# Altium schematic symbol library WR-FPC.SchLib: 258 symbols (part 3 of 6)
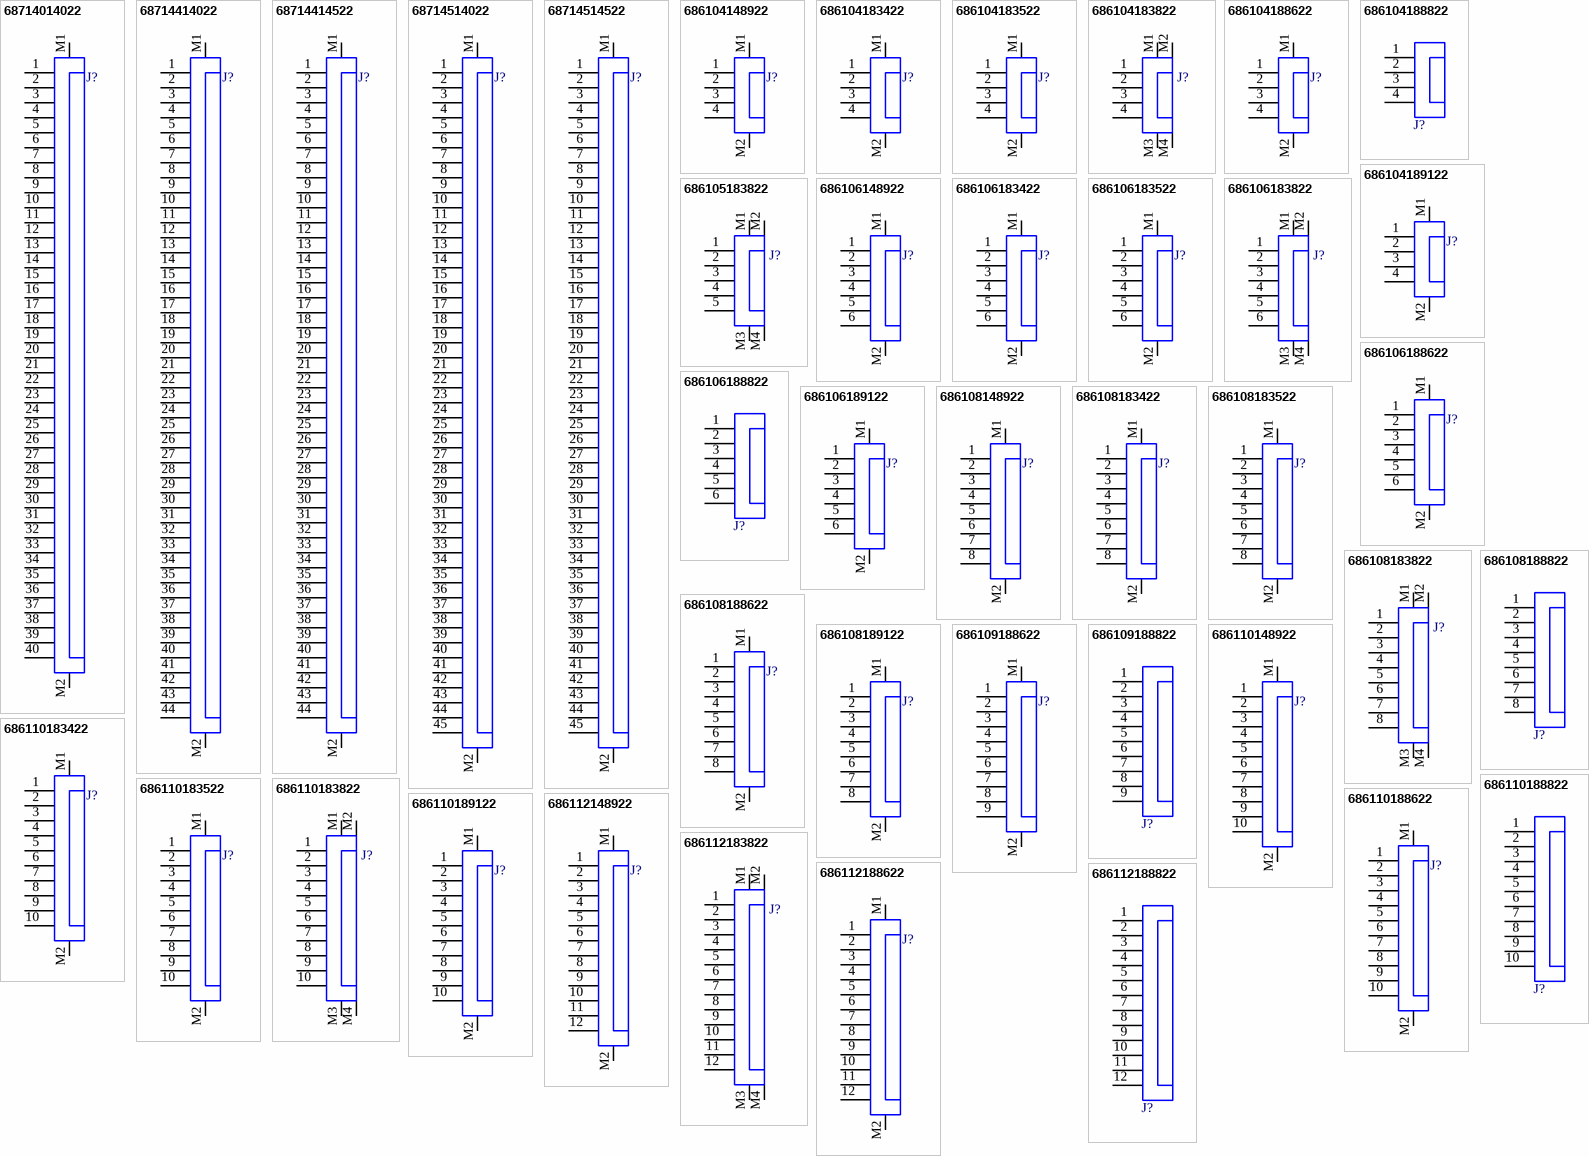
[diagram p9: symbols 68714014022 to 686112188822]

## 686112148922
designator J?  (value not drawn)
WR-FPC SMT ZIF Horizontal Bottom Contact Hinge Type, pitch 1mm, Horizontal, 12pins; Manufacturer: Wurth Elektronik; Contact Resistance: 50mΩ; Rated Current: 1A; Working Voltage: 100VAC; Withstanding Voltage: 1000VAC; ComponentLink1Description: Datasheet; ComponentLink1URL: https://www.we-online.com/redexpert/spec/686112148922?ad; Manufacturer Part Number: 686112148922; Category: FPC Connectors; Mount: Surface Mount; Operating Temperature Max: 105°C; Operating Temperature Min: -40°C; Packaging: Tape and Reel; Length: 16.6mm; Width: 6.5mm; Height: 2.2mm; Number of Pins: 12; Orientation: Horizontal; Pitch: 1mm; LCSC Part #: N/A; Supplier 1: Mouser; Supplier 1 Part Number: N/A; Supplier 1 URL: N/A; Supplier 2: Digi-Key; Supplier 2 Part Number: N/A; Supplier 2 URL: N/A; Supplier 3: thegioiic; Supplier 3 Part Number: N/A; Supplier 3 URL: N/A; Value: 686112148922
footprint 686112148922
pins: 1, 2, 3, 4, 5, 6, 7, 8, 9, 10, 11, 12, M1, M2

## 686112183822
designator J?  (value not drawn)
WR-FPC SMT ZIF Vertical Type A, pitch 1mm, Vertical, 12pins; Manufacturer: Wurth Elektronik; Contact Resistance: 30mΩ; Rated Current: 1A; Working Voltage: 125VAC; Withstanding Voltage: 1000VAC; ComponentLink1Description: Datasheet; ComponentLink1URL: https://www.we-online.com/redexpert/spec/686112183822?ad; Manufacturer Part Number: 686112183822; Category: FPC Connectors; Mount: Surface Mount; Operating Temperature Max: 85°C; Operating Temperature Min: -25°C; Packaging: Tape and Reel; Length: 18.8mm; Width: 3.3mm; Height: 3.25mm; Number of Pins: 12; Orientation: Vertical; Pitch: 1mm; LCSC Part #: N/A; Supplier 1: Mouser; Supplier 1 Part Number: N/A; Supplier 1 URL: N/A; Supplier 2: Digi-Key; Supplier 2 Part Number: N/A; Supplier 2 URL: N/A; Supplier 3: thegioiic; Supplier 3 Part Number: N/A; Supplier 3 URL: N/A; Value: 686112183822
footprint 686112183822
pins: 1, 2, 3, 4, 5, 6, 7, 8, 9, 10, 11, 12, M1, M2, M3, M4

## 686112188622
designator J?  (value not drawn)
WR-FPC SMT LIF Horizontal Top Contact, pitch 1mm, Horizontal, 12pins; Manufacturer: Wurth Elektronik; Contact Resistance: 30mΩ; Rated Current: 1A; Working Voltage: 125VAC; Withstanding Voltage: 1000VAC; ComponentLink1Description: Datasheet; ComponentLink1URL: https://www.we-online.com/redexpert/spec/686112188622?ad; Manufacturer Part Number: 686112188622; Category: FPC Connectors; Mount: Surface Mount; Operating Temperature Max: 85°C; Operating Temperature Min: -25°C; Packaging: Tape and Reel; Length: 15.8mm; Width: 6.8mm; Height: 3.1mm; Number of Pins: 12; Orientation: Horizontal; Pitch: 1mm; LCSC Part #: N/A; Supplier 1: Mouser; Supplier 1 Part Number: N/A; Supplier 1 URL: N/A; Supplier 2: Digi-Key; Supplier 2 Part Number: N/A; Supplier 2 URL: N/A; Supplier 3: thegioiic; Supplier 3 Part Number: N/A; Supplier 3 URL: N/A; Value: 686112188622
footprint 686112188622
pins: 1, 2, 3, 4, 5, 6, 7, 8, 9, 10, 11, 12, M1, M2

## 686112188822
designator J?  (value not drawn)
WR-FPC SMT LIF Vertical Type A, pitch 1mm, Vertical, 12pins; Manufacturer: Wurth Elektronik; Contact Resistance: 30mΩ; Rated Current: 1A; Working Voltage: 125VAC; Withstanding Voltage: 1000VAC; ComponentLink1Description: Datasheet; ComponentLink1URL: https://www.we-online.com/redexpert/spec/686112188822?ad; Manufacturer Part Number: 686112188822; Category: FPC Connectors; Mount: Surface Mount; Operating Temperature Max: 85°C; Operating Temperature Min: -25°C; Packaging: Tape and Reel; Length: 15mm; Width: 4.4mm; Height: 5.1mm; Number of Pins: 12; Orientation: Vertical; Pitch: 1mm; LCSC Part #: N/A; Supplier 1: Mouser; Supplier 1 Part Number: N/A; Supplier 1 URL: N/A; Supplier 2: Digi-Key; Supplier 2 Part Number: N/A; Supplier 2 URL: N/A; Supplier 3: thegioiic; Supplier 3 Part Number: N/A; Supplier 3 URL: N/A; Value: 686112188822
footprint 686112188822
pins: 1, 2, 3, 4, 5, 6, 7, 8, 9, 10, 11, 12

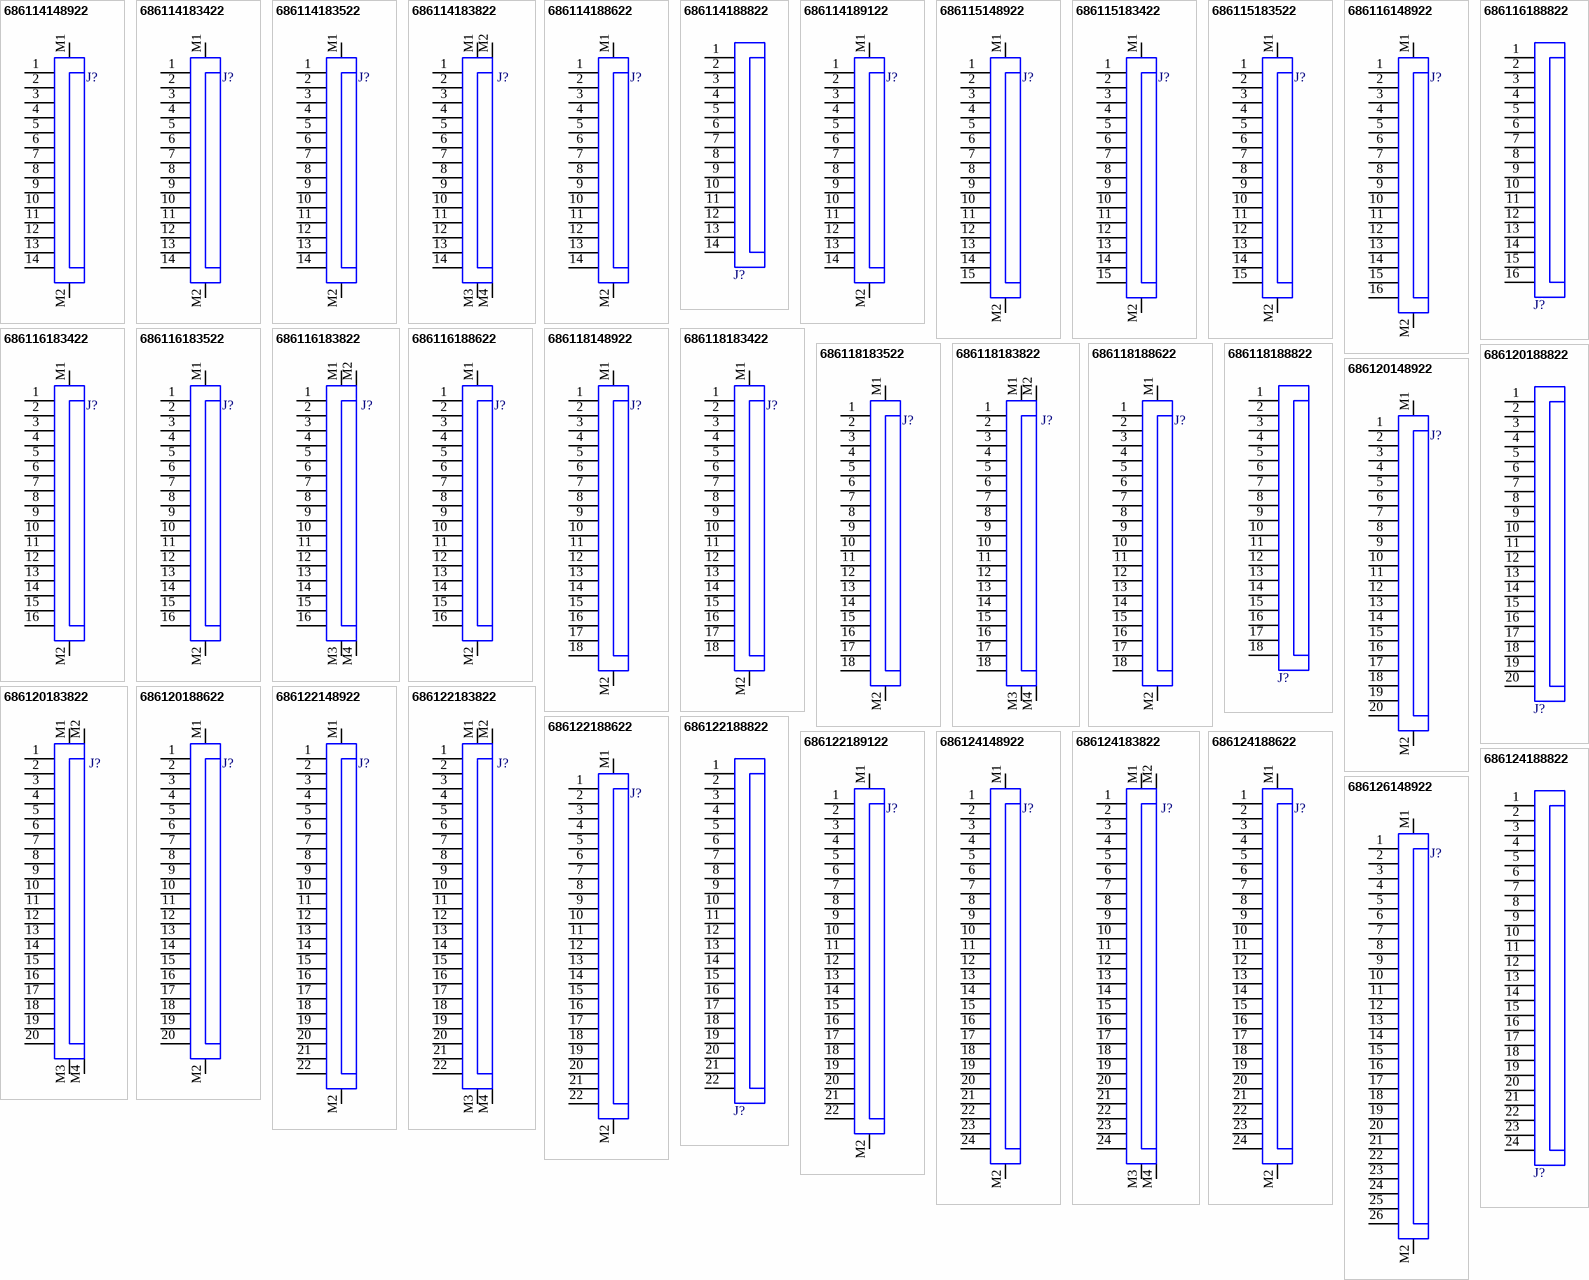
[diagram p3: symbols 686114148922 to 686126148922]

## 686114148922
designator J?  (value not drawn)
WR-FPC SMT ZIF Horizontal Bottom Contact Hinge Type, pitch 1mm, Horizontal, 14pins; Manufacturer: Wurth Elektronik; Contact Resistance: 50mΩ; Rated Current: 1A; Working Voltage: 100VAC; Withstanding Voltage: 1000VAC; ComponentLink1Description: Datasheet; ComponentLink1URL: https://www.we-online.com/redexpert/spec/686114148922?ad; Manufacturer Part Number: 686114148922; Category: FPC Connectors; Mount: Surface Mount; Operating Temperature Max: 105°C; Operating Temperature Min: -40°C; Packaging: Tape and Reel; Length: 18.6mm; Width: 6.5mm; Height: 2.2mm; Number of Pins: 14; Orientation: Horizontal; Pitch: 1mm; LCSC Part #: N/A; Supplier 1: Mouser; Supplier 1 Part Number: N/A; Supplier 1 URL: N/A; Supplier 2: Digi-Key; Supplier 2 Part Number: N/A; Supplier 2 URL: N/A; Supplier 3: thegioiic; Supplier 3 Part Number: N/A; Supplier 3 URL: N/A; Value: 686114148922
footprint 686114148922
pins: 1, 2, 3, 4, 5, 6, 7, 8, 9, 10, 11, 12, 13, 14, M1, M2

## 686114183422
designator J?  (value not drawn)
WR-FPC SMT ZIF Horizontal Top Contact Low Profile, pitch 1mm, Horizontal, 14pins; Manufacturer: Wurth Elektronik; Contact Resistance: 30mΩ; Rated Current: 0.8A; Working Voltage: 50VAC; Withstanding Voltage: 1000VAC; ComponentLink1Description: Datasheet; ComponentLink1URL: https://www.we-online.com/redexpert/spec/686114183422?ad; Manufacturer Part Number: 686114183422; Category: FPC Connectors; Mount: Surface Mount; Operating Temperature Max: 85°C; Operating Temperature Min: -25°C; Packaging: Tape and Reel; Length: 20.2mm; Width: 4.25mm; Height: 1.2mm; Number of Pins: 14; Orientation: Horizontal; Pitch: 1mm; LCSC Part #: N/A; Supplier 1: Mouser; Supplier 1 Part Number: N/A; Supplier 1 URL: N/A; Supplier 2: Digi-Key; Supplier 2 Part Number: N/A; Supplier 2 URL: N/A; Supplier 3: thegioiic; Supplier 3 Part Number: N/A; Supplier 3 URL: N/A; Value: 686114183422
footprint 686114183422
pins: 1, 2, 3, 4, 5, 6, 7, 8, 9, 10, 11, 12, 13, 14, M1, M2

## 686114183522
designator J?  (value not drawn)
WR-FPC SMT ZIF Horizontal Bottom Contact Low Profile, pitch 1mm, Horizontal, 14pins; Manufacturer: Wurth Elektronik; Contact Resistance: 30mΩ; Rated Current: 0.8A; Working Voltage: 50VAC; Withstanding Voltage: 1000VAC; ComponentLink1Description: Datasheet; ComponentLink1URL: https://www.we-online.com/redexpert/spec/686114183522?ad; Manufacturer Part Number: 686114183522; Category: FPC Connectors; Mount: Surface Mount; Operating Temperature Max: 85°C; Operating Temperature Min: -25°C; Packaging: Tape and Reel; Length: 20.2mm; Width: 4.25mm; Height: 1.2mm; Number of Pins: 14; Orientation: Horizontal; Pitch: 1mm; LCSC Part #: N/A; Supplier 1: Mouser; Supplier 1 Part Number: N/A; Supplier 1 URL: N/A; Supplier 2: Digi-Key; Supplier 2 Part Number: N/A; Supplier 2 URL: N/A; Supplier 3: thegioiic; Supplier 3 Part Number: N/A; Supplier 3 URL: N/A; Value: 686114183522
footprint 686114183522
pins: 1, 2, 3, 4, 5, 6, 7, 8, 9, 10, 11, 12, 13, 14, M1, M2

## 686114183822
designator J?  (value not drawn)
WR-FPC SMT ZIF Vertical Type A, pitch 1mm, Vertical, 14pins; Manufacturer: Wurth Elektronik; Contact Resistance: 30mΩ; Rated Current: 1A; Working Voltage: 125VAC; Withstanding Voltage: 1000VAC; ComponentLink1Description: Datasheet; ComponentLink1URL: https://www.we-online.com/redexpert/spec/686114183822?ad; Manufacturer Part Number: 686114183822; Category: FPC Connectors; Mount: Surface Mount; Operating Temperature Max: 85°C; Operating Temperature Min: -25°C; Packaging: Tape and Reel; Length: 20.8mm; Width: 3.3mm; Height: 3.25mm; Number of Pins: 14; Orientation: Vertical; Pitch: 1mm; LCSC Part #: N/A; Supplier 1: Mouser; Supplier 1 Part Number: N/A; Supplier 1 URL: N/A; Supplier 2: Digi-Key; Supplier 2 Part Number: N/A; Supplier 2 URL: N/A; Supplier 3: thegioiic; Supplier 3 Part Number: N/A; Supplier 3 URL: N/A; Value: 686114183822
footprint 686114183822
pins: 1, 2, 3, 4, 5, 6, 7, 8, 9, 10, 11, 12, 13, 14, M1, M2, M3, M4

## 686114188622
designator J?  (value not drawn)
WR-FPC SMT LIF Horizontal Top Contact, pitch 1mm, Horizontal, 14pins; Manufacturer: Wurth Elektronik; Contact Resistance: 30mΩ; Rated Current: 1A; Working Voltage: 125VAC; Withstanding Voltage: 1000VAC; ComponentLink1Description: Datasheet; ComponentLink1URL: https://www.we-online.com/redexpert/spec/686114188622?ad; Manufacturer Part Number: 686114188622; Category: FPC Connectors; Mount: Surface Mount; Operating Temperature Max: 85°C; Operating Temperature Min: -25°C; Packaging: Tape and Reel; Length: 17.8mm; Width: 6.8mm; Height: 3.1mm; Number of Pins: 14; Orientation: Horizontal; Pitch: 1mm; LCSC Part #: N/A; Supplier 1: Mouser; Supplier 1 Part Number: N/A; Supplier 1 URL: N/A; Supplier 2: Digi-Key; Supplier 2 Part Number: N/A; Supplier 2 URL: N/A; Supplier 3: thegioiic; Supplier 3 Part Number: N/A; Supplier 3 URL: N/A; Value: 686114188622
footprint 686114188622
pins: 1, 2, 3, 4, 5, 6, 7, 8, 9, 10, 11, 12, 13, 14, M1, M2

## 686114188822
designator J?  (value not drawn)
WR-FPC SMT LIF Vertical Type A, pitch 1mm, Vertical, 14pins; Manufacturer: Wurth Elektronik; Contact Resistance: 30mΩ; Rated Current: 1A; Working Voltage: 125VAC; Withstanding Voltage: 1000VAC; ComponentLink1Description: Datasheet; ComponentLink1URL: https://www.we-online.com/redexpert/spec/686114188822?ad; Manufacturer Part Number: 686114188822; Category: FPC Connectors; Mount: Surface Mount; Operating Temperature Max: 85°C; Operating Temperature Min: -25°C; Packaging: Tape and Reel; Length: 17mm; Width: 4.4mm; Height: 5.1mm; Number of Pins: 14; Orientation: Vertical; Pitch: 1mm; LCSC Part #: N/A; Supplier 1: Mouser; Supplier 1 Part Number: N/A; Supplier 1 URL: N/A; Supplier 2: Digi-Key; Supplier 2 Part Number: N/A; Supplier 2 URL: N/A; Supplier 3: thegioiic; Supplier 3 Part Number: N/A; Supplier 3 URL: N/A; Value: 686114188822
footprint 686114188822
pins: 1, 2, 3, 4, 5, 6, 7, 8, 9, 10, 11, 12, 13, 14

## 686114189122
designator J?  (value not drawn)
WR-FPC SMT ZIF Horizontal Back Locking Dual Contact, pitch 1mm, Horizontal, 14pins; Manufacturer: Wurth Elektronik; Contact Resistance: 30mΩ; Rated Current: 0.5A; Working Voltage: 50VAC; Withstanding Voltage: 1000VAC; ComponentLink1Description: Datasheet; ComponentLink1URL: https://www.we-online.com/redexpert/spec/686114189122?ad; Manufacturer Part Number: 686114189122; Category: FPC Connectors; Mount: Surface Mount; Operating Temperature Max: 85°C; Operating Temperature Min: -55°C; Packaging: Tape and Reel; Length: 16.5mm; Width: 2.88mm; Height: 0.96mm; Number of Pins: 14; Orientation: Horizontal; Pitch: 1mm; LCSC Part #: N/A; Supplier 1: Mouser; Supplier 1 Part Number: N/A; Supplier 1 URL: N/A; Supplier 2: Digi-Key; Supplier 2 Part Number: N/A; Supplier 2 URL: N/A; Supplier 3: thegioiic; Supplier 3 Part Number: N/A; Supplier 3 URL: N/A; Value: 686114189122
footprint 686114189122
pins: 1, 2, 3, 4, 5, 6, 7, 8, 9, 10, 11, 12, 13, 14, M1, M2

## 686115148922
designator J?  (value not drawn)
WR-FPC SMT ZIF Horizontal Bottom Contact Hinge Type, pitch 1mm, Horizontal, 15pins; Manufacturer: Wurth Elektronik; Contact Resistance: 50mΩ; Rated Current: 1A; Working Voltage: 100VAC; Withstanding Voltage: 1000VAC; ComponentLink1Description: Datasheet; ComponentLink1URL: https://www.we-online.com/redexpert/spec/686115148922?ad; Manufacturer Part Number: 686115148922; Category: FPC Connectors; Mount: Surface Mount; Operating Temperature Max: 105°C; Operating Temperature Min: -40°C; Packaging: Tape and Reel; Length: 19.6mm; Width: 6.5mm; Height: 2.2mm; Number of Pins: 15; Orientation: Horizontal; Pitch: 1mm; LCSC Part #: N/A; Supplier 1: Mouser; Supplier 1 Part Number: N/A; Supplier 1 URL: N/A; Supplier 2: Digi-Key; Supplier 2 Part Number: N/A; Supplier 2 URL: N/A; Supplier 3: thegioiic; Supplier 3 Part Number: N/A; Supplier 3 URL: N/A; Value: 686115148922
footprint 686115148922
pins: 1, 2, 3, 4, 5, 6, 7, 8, 9, 10, 11, 12, 13, 14, 15, M1, M2

## 686115183422
designator J?  (value not drawn)
WR-FPC SMT ZIF Horizontal Top Contact Low Profile, pitch 1mm, Horizontal, 15pins; Manufacturer: Wurth Elektronik; Contact Resistance: 30mΩ; Rated Current: 0.8A; Working Voltage: 50VAC; Withstanding Voltage: 1000VAC; ComponentLink1Description: Datasheet; ComponentLink1URL: https://www.we-online.com/redexpert/spec/686115183422?ad; Manufacturer Part Number: 686115183422; Category: FPC Connectors; Mount: Surface Mount; Operating Temperature Max: 85°C; Operating Temperature Min: -25°C; Packaging: Tape and Reel; Length: 21.2mm; Width: 4.25mm; Height: 1.2mm; Number of Pins: 15; Orientation: Horizontal; Pitch: 1mm; LCSC Part #: N/A; Supplier 1: Mouser; Supplier 1 Part Number: N/A; Supplier 1 URL: N/A; Supplier 2: Digi-Key; Supplier 2 Part Number: N/A; Supplier 2 URL: N/A; Supplier 3: thegioiic; Supplier 3 Part Number: N/A; Supplier 3 URL: N/A; Value: 686115183422
footprint 686115183422
pins: 1, 2, 3, 4, 5, 6, 7, 8, 9, 10, 11, 12, 13, 14, 15, M1, M2

## 686115183522
designator J?  (value not drawn)
WR-FPC SMT ZIF Horizontal Bottom Contact Low Profile, pitch 1mm, Horizontal, 15pins; Manufacturer: Wurth Elektronik; Contact Resistance: 30mΩ; Rated Current: 0.8A; Working Voltage: 50VAC; Withstanding Voltage: 1000VAC; ComponentLink1Description: Datasheet; ComponentLink1URL: https://www.we-online.com/redexpert/spec/686115183522?ad; Manufacturer Part Number: 686115183522; Category: FPC Connectors; Mount: Surface Mount; Operating Temperature Max: 85°C; Operating Temperature Min: -25°C; Packaging: Tape and Reel; Length: 21.2mm; Width: 4.25mm; Height: 1.2mm; Number of Pins: 15; Orientation: Horizontal; Pitch: 1mm; LCSC Part #: N/A; Supplier 1: Mouser; Supplier 1 Part Number: N/A; Supplier 1 URL: N/A; Supplier 2: Digi-Key; Supplier 2 Part Number: N/A; Supplier 2 URL: N/A; Supplier 3: thegioiic; Supplier 3 Part Number: N/A; Supplier 3 URL: N/A; Value: 686115183522
footprint 686115183522
pins: 1, 2, 3, 4, 5, 6, 7, 8, 9, 10, 11, 12, 13, 14, 15, M1, M2

## 686116148922
designator J?  (value not drawn)
WR-FPC SMT ZIF Horizontal Bottom Contact Hinge Type, pitch 1mm, Horizontal, 16pins; Manufacturer: Wurth Elektronik; Contact Resistance: 50mΩ; Rated Current: 1A; Working Voltage: 100VAC; Withstanding Voltage: 1000VAC; ComponentLink1Description: Datasheet; ComponentLink1URL: https://www.we-online.com/redexpert/spec/686116148922?ad; Manufacturer Part Number: 686116148922; Category: FPC Connectors; Mount: Surface Mount; Operating Temperature Max: 105°C; Operating Temperature Min: -40°C; Packaging: Tape and Reel; Length: 20.6mm; Width: 6.5mm; Height: 2.2mm; Number of Pins: 16; Orientation: Horizontal; Pitch: 1mm; LCSC Part #: N/A; Supplier 1: Mouser; Supplier 1 Part Number: N/A; Supplier 1 URL: N/A; Supplier 2: Digi-Key; Supplier 2 Part Number: N/A; Supplier 2 URL: N/A; Supplier 3: thegioiic; Supplier 3 Part Number: N/A; Supplier 3 URL: N/A; Value: 686116148922
footprint 686116148922
pins: 1, 2, 3, 4, 5, 6, 7, 8, 9, 10, 11, 12, 13, 14, 15, 16, M1, M2

## 686116183422
designator J?  (value not drawn)
WR-FPC SMT ZIF Horizontal Top Contact Low Profile, pitch 1mm, Horizontal, 16pins; Manufacturer: Wurth Elektronik; Contact Resistance: 30mΩ; Rated Current: 0.8A; Working Voltage: 50VAC; Withstanding Voltage: 1000VAC; ComponentLink1Description: Datasheet; ComponentLink1URL: https://www.we-online.com/redexpert/spec/686116183422?ad; Manufacturer Part Number: 686116183422; Category: FPC Connectors; Mount: Surface Mount; Operating Temperature Max: 85°C; Operating Temperature Min: -25°C; Packaging: Tape and Reel; Length: 22.2mm; Width: 4.25mm; Height: 1.2mm; Number of Pins: 16; Orientation: Horizontal; Pitch: 1mm; LCSC Part #: N/A; Supplier 1: Mouser; Supplier 1 Part Number: N/A; Supplier 1 URL: N/A; Supplier 2: Digi-Key; Supplier 2 Part Number: N/A; Supplier 2 URL: N/A; Supplier 3: thegioiic; Supplier 3 Part Number: N/A; Supplier 3 URL: N/A; Value: 686116183422
footprint 686116183422
pins: 1, 2, 3, 4, 5, 6, 7, 8, 9, 10, 11, 12, 13, 14, 15, 16, M1, M2

## 686116183522
designator J?  (value not drawn)
WR-FPC SMT ZIF Horizontal Bottom Contact Low Profile, pitch 1mm, Horizontal, 16pins; Manufacturer: Wurth Elektronik; Contact Resistance: 30mΩ; Rated Current: 0.8A; Working Voltage: 50VAC; Withstanding Voltage: 1000VAC; ComponentLink1Description: Datasheet; ComponentLink1URL: https://www.we-online.com/redexpert/spec/686116183522?ad; Manufacturer Part Number: 686116183522; Category: FPC Connectors; Mount: Surface Mount; Operating Temperature Max: 85°C; Operating Temperature Min: -25°C; Packaging: Tape and Reel; Length: 22.2mm; Width: 4.25mm; Height: 1.2mm; Number of Pins: 16; Orientation: Horizontal; Pitch: 1mm; LCSC Part #: N/A; Supplier 1: Mouser; Supplier 1 Part Number: N/A; Supplier 1 URL: N/A; Supplier 2: Digi-Key; Supplier 2 Part Number: N/A; Supplier 2 URL: N/A; Supplier 3: thegioiic; Supplier 3 Part Number: N/A; Supplier 3 URL: N/A; Value: 686116183522
footprint 686116183522
pins: 1, 2, 3, 4, 5, 6, 7, 8, 9, 10, 11, 12, 13, 14, 15, 16, M1, M2

## 686116183822
designator J?  (value not drawn)
WR-FPC SMT ZIF Vertical Type A, pitch 1mm, Vertical, 16pins; Manufacturer: Wurth Elektronik; Contact Resistance: 30mΩ; Rated Current: 1A; Working Voltage: 125VAC; Withstanding Voltage: 1000VAC; ComponentLink1Description: Datasheet; ComponentLink1URL: https://www.we-online.com/redexpert/spec/686116183822?ad; Manufacturer Part Number: 686116183822; Category: FPC Connectors; Mount: Surface Mount; Operating Temperature Max: 85°C; Operating Temperature Min: -25°C; Packaging: Tape and Reel; Length: 22.8mm; Width: 3.3mm; Height: 3.25mm; Number of Pins: 16; Orientation: Vertical; Pitch: 1mm; LCSC Part #: N/A; Supplier 1: Mouser; Supplier 1 Part Number: N/A; Supplier 1 URL: N/A; Supplier 2: Digi-Key; Supplier 2 Part Number: N/A; Supplier 2 URL: N/A; Supplier 3: thegioiic; Supplier 3 Part Number: N/A; Supplier 3 URL: N/A; Value: 686116183822
footprint 686116183822
pins: 1, 2, 3, 4, 5, 6, 7, 8, 9, 10, 11, 12, 13, 14, 15, 16, M1, M2, M3, M4

## 686116188622
designator J?  (value not drawn)
WR-FPC SMT LIF Horizontal Top Contact, pitch 1mm, Horizontal, 16pins; Manufacturer: Wurth Elektronik; Contact Resistance: 30mΩ; Rated Current: 1A; Working Voltage: 125VAC; Withstanding Voltage: 1000VAC; ComponentLink1Description: Datasheet; ComponentLink1URL: https://www.we-online.com/redexpert/spec/686116188622?ad; Manufacturer Part Number: 686116188622; Category: FPC Connectors; Mount: Surface Mount; Operating Temperature Max: 85°C; Operating Temperature Min: -25°C; Packaging: Tape and Reel; Length: 19.8mm; Width: 6.8mm; Height: 3.1mm; Number of Pins: 16; Orientation: Horizontal; Pitch: 1mm; LCSC Part #: N/A; Supplier 1: Mouser; Supplier 1 Part Number: N/A; Supplier 1 URL: N/A; Supplier 2: Digi-Key; Supplier 2 Part Number: N/A; Supplier 2 URL: N/A; Supplier 3: thegioiic; Supplier 3 Part Number: N/A; Supplier 3 URL: N/A; Value: 686116188622
footprint 686116188622
pins: 1, 2, 3, 4, 5, 6, 7, 8, 9, 10, 11, 12, 13, 14, 15, 16, M1, M2

## 686116188822
designator J?  (value not drawn)
WR-FPC SMT LIF Vertical Type A, pitch 1mm, Vertical, 16pins; Manufacturer: Wurth Elektronik; Contact Resistance: 30mΩ; Rated Current: 1A; Working Voltage: 125VAC; Withstanding Voltage: 1000VAC; ComponentLink1Description: Datasheet; ComponentLink1URL: https://www.we-online.com/redexpert/spec/686116188822?ad; Manufacturer Part Number: 686116188822; Category: FPC Connectors; Mount: Surface Mount; Operating Temperature Max: 85°C; Operating Temperature Min: -25°C; Packaging: Tape and Reel; Length: 19mm; Width: 4.4mm; Height: 5.1mm; Number of Pins: 16; Orientation: Vertical; Pitch: 1mm; LCSC Part #: N/A; Supplier 1: Mouser; Supplier 1 Part Number: N/A; Supplier 1 URL: N/A; Supplier 2: Digi-Key; Supplier 2 Part Number: N/A; Supplier 2 URL: N/A; Supplier 3: thegioiic; Supplier 3 Part Number: N/A; Supplier 3 URL: N/A; Value: 686116188822
footprint 686116188822
pins: 1, 2, 3, 4, 5, 6, 7, 8, 9, 10, 11, 12, 13, 14, 15, 16

## 686118148922
designator J?  (value not drawn)
WR-FPC SMT ZIF Horizontal Bottom Contact Hinge Type, pitch 1mm, Horizontal, 18pins; Manufacturer: Wurth Elektronik; Contact Resistance: 50mΩ; Rated Current: 1A; Working Voltage: 100VAC; Withstanding Voltage: 1000VAC; ComponentLink1Description: Datasheet; ComponentLink1URL: https://www.we-online.com/redexpert/spec/686118148922?ad; Manufacturer Part Number: 686118148922; Category: FPC Connectors; Mount: Surface Mount; Operating Temperature Max: 105°C; Operating Temperature Min: -40°C; Packaging: Tape and Reel; Length: 22.6mm; Width: 6.5mm; Height: 2.2mm; Number of Pins: 18; Orientation: Horizontal; Pitch: 1mm; LCSC Part #: N/A; Supplier 1: Mouser; Supplier 1 Part Number: N/A; Supplier 1 URL: N/A; Supplier 2: Digi-Key; Supplier 2 Part Number: N/A; Supplier 2 URL: N/A; Supplier 3: thegioiic; Supplier 3 Part Number: N/A; Supplier 3 URL: N/A; Value: 686118148922
footprint 686118148922
pins: 1, 2, 3, 4, 5, 6, 7, 8, 9, 10, 11, 12, 13, 14, 15, 16, 17, 18, M1, M2

## 686118183422
designator J?  (value not drawn)
WR-FPC SMT ZIF Horizontal Top Contact Low Profile, pitch 1mm, Horizontal, 18pins; Manufacturer: Wurth Elektronik; Contact Resistance: 30mΩ; Rated Current: 0.8A; Working Voltage: 50VAC; Withstanding Voltage: 1000VAC; ComponentLink1Description: Datasheet; ComponentLink1URL: https://www.we-online.com/redexpert/spec/686118183422?ad; Manufacturer Part Number: 686118183422; Category: FPC Connectors; Mount: Surface Mount; Operating Temperature Max: 85°C; Operating Temperature Min: -25°C; Packaging: Tape and Reel; Length: 24.2mm; Width: 4.25mm; Height: 1.2mm; Number of Pins: 18; Orientation: Horizontal; Pitch: 1mm; LCSC Part #: N/A; Supplier 1: Mouser; Supplier 1 Part Number: N/A; Supplier 1 URL: N/A; Supplier 2: Digi-Key; Supplier 2 Part Number: N/A; Supplier 2 URL: N/A; Supplier 3: thegioiic; Supplier 3 Part Number: N/A; Supplier 3 URL: N/A; Value: 686118183422
footprint 686118183422
pins: 1, 2, 3, 4, 5, 6, 7, 8, 9, 10, 11, 12, 13, 14, 15, 16, 17, 18, M1, M2

## 686118183522
designator J?  (value not drawn)
WR-FPC SMT ZIF Horizontal Bottom Contact Low Profile, pitch 1mm, Horizontal, 18pins; Manufacturer: Wurth Elektronik; Contact Resistance: 30mΩ; Rated Current: 0.8A; Working Voltage: 50VAC; Withstanding Voltage: 1000VAC; ComponentLink1Description: Datasheet; ComponentLink1URL: https://www.we-online.com/redexpert/spec/686118183522?ad; Manufacturer Part Number: 686118183522; Category: FPC Connectors; Mount: Surface Mount; Operating Temperature Max: 85°C; Operating Temperature Min: -25°C; Packaging: Tape and Reel; Length: 24.2mm; Width: 4.25mm; Height: 1.2mm; Number of Pins: 18; Orientation: Horizontal; Pitch: 1mm; LCSC Part #: N/A; Supplier 1: Mouser; Supplier 1 Part Number: N/A; Supplier 1 URL: N/A; Supplier 2: Digi-Key; Supplier 2 Part Number: N/A; Supplier 2 URL: N/A; Supplier 3: thegioiic; Supplier 3 Part Number: N/A; Supplier 3 URL: N/A; Value: 686118183522
footprint 686118183522
pins: 1, 2, 3, 4, 5, 6, 7, 8, 9, 10, 11, 12, 13, 14, 15, 16, 17, 18, M1, M2

## 686118183822
designator J?  (value not drawn)
WR-FPC SMT ZIF Vertical Type A, pitch 1mm, Vertical, 18pins; Manufacturer: Wurth Elektronik; Contact Resistance: 30mΩ; Rated Current: 1A; Working Voltage: 125VAC; Withstanding Voltage: 1000VAC; ComponentLink1Description: Datasheet; ComponentLink1URL: https://www.we-online.com/redexpert/spec/686118183822?ad; Manufacturer Part Number: 686118183822; Category: FPC Connectors; Mount: Surface Mount; Operating Temperature Max: 85°C; Operating Temperature Min: -25°C; Packaging: Tape and Reel; Length: 24.8mm; Width: 3.3mm; Height: 3.25mm; Number of Pins: 18; Orientation: Vertical; Pitch: 1mm; LCSC Part #: N/A; Supplier 1: Mouser; Supplier 1 Part Number: N/A; Supplier 1 URL: N/A; Supplier 2: Digi-Key; Supplier 2 Part Number: N/A; Supplier 2 URL: N/A; Supplier 3: thegioiic; Supplier 3 Part Number: N/A; Supplier 3 URL: N/A; Value: 686118183822
footprint 686118183822
pins: 1, 2, 3, 4, 5, 6, 7, 8, 9, 10, 11, 12, 13, 14, 15, 16, 17, 18, M1, M2, M3, M4

## 686118188622
designator J?  (value not drawn)
WR-FPC SMT LIF Horizontal Top Contact, pitch 1mm, Horizontal, 18pins; Manufacturer: Wurth Elektronik; Contact Resistance: 30mΩ; Rated Current: 1A; Working Voltage: 125VAC; Withstanding Voltage: 1000VAC; ComponentLink1Description: Datasheet; ComponentLink1URL: https://www.we-online.com/redexpert/spec/686118188622?ad; Manufacturer Part Number: 686118188622; Category: FPC Connectors; Mount: Surface Mount; Operating Temperature Max: 85°C; Operating Temperature Min: -25°C; Packaging: Tape and Reel; Length: 21.8mm; Width: 6.8mm; Height: 3.1mm; Number of Pins: 18; Orientation: Horizontal; Pitch: 1mm; LCSC Part #: N/A; Supplier 1: Mouser; Supplier 1 Part Number: N/A; Supplier 1 URL: N/A; Supplier 2: Digi-Key; Supplier 2 Part Number: N/A; Supplier 2 URL: N/A; Supplier 3: thegioiic; Supplier 3 Part Number: N/A; Supplier 3 URL: N/A; Value: 686118188622
footprint 686118188622
pins: 1, 2, 3, 4, 5, 6, 7, 8, 9, 10, 11, 12, 13, 14, 15, 16, 17, 18, M1, M2

## 686118188822
designator J?  (value not drawn)
WR-FPC SMT LIF Vertical Type A, pitch 1mm, Vertical, 18pins; Manufacturer: Wurth Elektronik; Contact Resistance: 30mΩ; Rated Current: 1A; Working Voltage: 125VAC; Withstanding Voltage: 1000VAC; ComponentLink1Description: Datasheet; ComponentLink1URL: https://www.we-online.com/redexpert/spec/686118188822?ad; Manufacturer Part Number: 686118188822; Category: FPC Connectors; Mount: Surface Mount; Operating Temperature Max: 85°C; Operating Temperature Min: -25°C; Packaging: Tape and Reel; Length: 21mm; Width: 4.4mm; Height: 5.1mm; Number of Pins: 18; Orientation: Vertical; Pitch: 1mm; LCSC Part #: N/A; Supplier 1: Mouser; Supplier 1 Part Number: N/A; Supplier 1 URL: N/A; Supplier 2: Digi-Key; Supplier 2 Part Number: N/A; Supplier 2 URL: N/A; Supplier 3: thegioiic; Supplier 3 Part Number: N/A; Supplier 3 URL: N/A; Value: 686118188822
footprint 686118188822
pins: 1, 2, 3, 4, 5, 6, 7, 8, 9, 10, 11, 12, 13, 14, 15, 16, 17, 18

## 686120148922
designator J?  (value not drawn)
WR-FPC SMT ZIF Horizontal Bottom Contact Hinge Type, pitch 1mm, Horizontal, 20pins; Manufacturer: Wurth Elektronik; Contact Resistance: 50mΩ; Rated Current: 1A; Working Voltage: 100VAC; Withstanding Voltage: 1000VAC; ComponentLink1Description: Datasheet; ComponentLink1URL: https://www.we-online.com/redexpert/spec/686120148922?ad; Manufacturer Part Number: 686120148922; Category: FPC Connectors; Mount: Surface Mount; Operating Temperature Max: 105°C; Operating Temperature Min: -40°C; Packaging: Tape and Reel; Length: 24.6mm; Width: 6.5mm; Height: 2.2mm; Number of Pins: 20; Orientation: Horizontal; Pitch: 1mm; LCSC Part #: N/A; Supplier 1: Mouser; Supplier 1 Part Number: N/A; Supplier 1 URL: N/A; Supplier 2: Digi-Key; Supplier 2 Part Number: N/A; Supplier 2 URL: N/A; Supplier 3: thegioiic; Supplier 3 Part Number: N/A; Supplier 3 URL: N/A; Value: 686120148922
footprint 686120148922
pins: 1, 2, 3, 4, 5, 6, 7, 8, 9, 10, 11, 12, 13, 14, 15, 16, 17, 18, 19, 20, M1, M2

## 686120183822
designator J?  (value not drawn)
WR-FPC SMT ZIF Vertical Type A, pitch 1mm, Vertical, 20pins; Manufacturer: Wurth Elektronik; Contact Resistance: 30mΩ; Rated Current: 1A; Working Voltage: 125VAC; Withstanding Voltage: 1000VAC; ComponentLink1Description: Datasheet; ComponentLink1URL: https://www.we-online.com/redexpert/spec/686120183822?ad; Manufacturer Part Number: 686120183822; Category: FPC Connectors; Mount: Surface Mount; Operating Temperature Max: 85°C; Operating Temperature Min: -25°C; Packaging: Tape and Reel; Length: 26.8mm; Width: 3.3mm; Height: 3.25mm; Number of Pins: 20; Orientation: Vertical; Pitch: 1mm; LCSC Part #: N/A; Supplier 1: Mouser; Supplier 1 Part Number: N/A; Supplier 1 URL: N/A; Supplier 2: Digi-Key; Supplier 2 Part Number: N/A; Supplier 2 URL: N/A; Supplier 3: thegioiic; Supplier 3 Part Number: N/A; Supplier 3 URL: N/A; Value: 686120183822
footprint 686120183822
pins: 1, 2, 3, 4, 5, 6, 7, 8, 9, 10, 11, 12, 13, 14, 15, 16, 17, 18, 19, 20, M1, M2, M3, M4

## 686120188622
designator J?  (value not drawn)
WR-FPC SMT LIF Horizontal Top Contact, pitch 1mm, Horizontal, 20pins; Manufacturer: Wurth Elektronik; Contact Resistance: 30mΩ; Rated Current: 1A; Working Voltage: 125VAC; Withstanding Voltage: 1000VAC; ComponentLink1Description: Datasheet; ComponentLink1URL: https://www.we-online.com/redexpert/spec/686120188622?ad; Manufacturer Part Number: 686120188622; Category: FPC Connectors; Mount: Surface Mount; Operating Temperature Max: 85°C; Operating Temperature Min: -25°C; Packaging: Tape and Reel; Length: 23.8mm; Width: 6.8mm; Height: 3.1mm; Number of Pins: 20; Orientation: Horizontal; Pitch: 1mm; LCSC Part #: N/A; Supplier 1: Mouser; Supplier 1 Part Number: N/A; Supplier 1 URL: N/A; Supplier 2: Digi-Key; Supplier 2 Part Number: N/A; Supplier 2 URL: N/A; Supplier 3: thegioiic; Supplier 3 Part Number: N/A; Supplier 3 URL: N/A; Value: 686120188622
footprint 686120188622
pins: 1, 2, 3, 4, 5, 6, 7, 8, 9, 10, 11, 12, 13, 14, 15, 16, 17, 18, 19, 20, M1, M2

## 686120188822
designator J?  (value not drawn)
WR-FPC SMT LIF Vertical Type A, pitch 1mm, Vertical, 20pins; Manufacturer: Wurth Elektronik; Contact Resistance: 30mΩ; Rated Current: 1A; Working Voltage: 125VAC; Withstanding Voltage: 1000VAC; ComponentLink1Description: Datasheet; ComponentLink1URL: https://www.we-online.com/redexpert/spec/686120188822?ad; Manufacturer Part Number: 686120188822; Category: FPC Connectors; Mount: Surface Mount; Operating Temperature Max: 85°C; Operating Temperature Min: -25°C; Packaging: Tape and Reel; Length: 23mm; Width: 4.4mm; Height: 5.1mm; Number of Pins: 20; Orientation: Vertical; Pitch: 1mm; LCSC Part #: N/A; Supplier 1: Mouser; Supplier 1 Part Number: N/A; Supplier 1 URL: N/A; Supplier 2: Digi-Key; Supplier 2 Part Number: N/A; Supplier 2 URL: N/A; Supplier 3: thegioiic; Supplier 3 Part Number: N/A; Supplier 3 URL: N/A; Value: 686120188822
footprint 686120188822
pins: 1, 2, 3, 4, 5, 6, 7, 8, 9, 10, 11, 12, 13, 14, 15, 16, 17, 18, 19, 20

## 686122148922
designator J?  (value not drawn)
WR-FPC SMT ZIF Horizontal Bottom Contact Hinge Type, pitch 1mm, Horizontal, 22pins; Manufacturer: Wurth Elektronik; Contact Resistance: 50mΩ; Rated Current: 1A; Working Voltage: 100VAC; Withstanding Voltage: 1000VAC; ComponentLink1Description: Datasheet; ComponentLink1URL: https://www.we-online.com/redexpert/spec/686122148922?ad; Manufacturer Part Number: 686122148922; Category: FPC Connectors; Mount: Surface Mount; Operating Temperature Max: 105°C; Operating Temperature Min: -40°C; Packaging: Tape and Reel; Length: 26.6mm; Width: 6.5mm; Height: 2.2mm; Number of Pins: 22; Orientation: Horizontal; Pitch: 1mm; LCSC Part #: N/A; Supplier 1: Mouser; Supplier 1 Part Number: N/A; Supplier 1 URL: N/A; Supplier 2: Digi-Key; Supplier 2 Part Number: N/A; Supplier 2 URL: N/A; Supplier 3: thegioiic; Supplier 3 Part Number: N/A; Supplier 3 URL: N/A; Value: 686122148922
footprint 686122148922
pins: 1, 2, 3, 4, 5, 6, 7, 8, 9, 10, 11, 12, 13, 14, 15, 16, 17, 18, 19, 20, 21, 22, M1, M2

## 686122183822
designator J?  (value not drawn)
WR-FPC SMT ZIF Vertical Type A, pitch 1mm, Vertical, 22pins; Manufacturer: Wurth Elektronik; Contact Resistance: 30mΩ; Rated Current: 1A; Working Voltage: 125VAC; Withstanding Voltage: 1000VAC; ComponentLink1Description: Datasheet; ComponentLink1URL: https://www.we-online.com/redexpert/spec/686122183822?ad; Manufacturer Part Number: 686122183822; Category: FPC Connectors; Mount: Surface Mount; Operating Temperature Max: 85°C; Operating Temperature Min: -25°C; Packaging: Tape and Reel; Length: 28.8mm; Width: 3.3mm; Height: 3.25mm; Number of Pins: 22; Orientation: Vertical; Pitch: 1mm; LCSC Part #: N/A; Supplier 1: Mouser; Supplier 1 Part Number: N/A; Supplier 1 URL: N/A; Supplier 2: Digi-Key; Supplier 2 Part Number: N/A; Supplier 2 URL: N/A; Supplier 3: thegioiic; Supplier 3 Part Number: N/A; Supplier 3 URL: N/A; Value: 686122183822
footprint 686122183822
pins: 1, 2, 3, 4, 5, 6, 7, 8, 9, 10, 11, 12, 13, 14, 15, 16, 17, 18, 19, 20, 21, 22, M1, M2, M3, M4

## 686122188622
designator J?  (value not drawn)
WR-FPC SMT LIF Horizontal Top Contact, pitch 1mm, Horizontal, 22pins; Manufacturer: Wurth Elektronik; Contact Resistance: 30mΩ; Rated Current: 1A; Working Voltage: 125VAC; Withstanding Voltage: 1000VAC; ComponentLink1Description: Datasheet; ComponentLink1URL: https://www.we-online.com/redexpert/spec/686122188622?ad; Manufacturer Part Number: 686122188622; Category: FPC Connectors; Mount: Surface Mount; Operating Temperature Max: 85°C; Operating Temperature Min: -25°C; Packaging: Tape and Reel; Length: 25.8mm; Width: 6.8mm; Height: 3.1mm; Number of Pins: 22; Orientation: Horizontal; Pitch: 1mm; LCSC Part #: N/A; Supplier 1: Mouser; Supplier 1 Part Number: N/A; Supplier 1 URL: N/A; Supplier 2: Digi-Key; Supplier 2 Part Number: N/A; Supplier 2 URL: N/A; Supplier 3: thegioiic; Supplier 3 Part Number: N/A; Supplier 3 URL: N/A; Value: 686122188622
footprint 686122188622
pins: 1, 2, 3, 4, 5, 6, 7, 8, 9, 10, 11, 12, 13, 14, 15, 16, 17, 18, 19, 20, 21, 22, M1, M2

## 686122188822
designator J?  (value not drawn)
WR-FPC SMT LIF Vertical Type A, pitch 1mm, Vertical, 22pins; Manufacturer: Wurth Elektronik; Contact Resistance: 30mΩ; Rated Current: 1A; Working Voltage: 125VAC; Withstanding Voltage: 1000VAC; ComponentLink1Description: Datasheet; ComponentLink1URL: https://www.we-online.com/redexpert/spec/686122188822?ad; Manufacturer Part Number: 686122188822; Category: FPC Connectors; Mount: Surface Mount; Operating Temperature Max: 85°C; Operating Temperature Min: -25°C; Packaging: Tape and Reel; Length: 25mm; Width: 4.4mm; Height: 5.1mm; Number of Pins: 22; Orientation: Vertical; Pitch: 1mm; LCSC Part #: N/A; Supplier 1: Mouser; Supplier 1 Part Number: N/A; Supplier 1 URL: N/A; Supplier 2: Digi-Key; Supplier 2 Part Number: N/A; Supplier 2 URL: N/A; Supplier 3: thegioiic; Supplier 3 Part Number: N/A; Supplier 3 URL: N/A; Value: 686122188822
footprint 686122188822
pins: 1, 2, 3, 4, 5, 6, 7, 8, 9, 10, 11, 12, 13, 14, 15, 16, 17, 18, 19, 20, 21, 22

## 686122189122
designator J?  (value not drawn)
WR-FPC SMT ZIF Horizontal Back Locking Dual Contact, pitch 1mm, Horizontal, 22pins; Manufacturer: Wurth Elektronik; Contact Resistance: 30mΩ; Rated Current: 0.5A; Working Voltage: 50VAC; Withstanding Voltage: 1000VAC; ComponentLink1Description: Datasheet; ComponentLink1URL: https://www.we-online.com/redexpert/spec/686122189122?ad; Manufacturer Part Number: 686122189122; Category: FPC Connectors; Mount: Surface Mount; Operating Temperature Max: 85°C; Operating Temperature Min: -55°C; Packaging: Tape and Reel; Length: 24.5mm; Width: 2.88mm; Height: 0.96mm; Number of Pins: 22; Orientation: Horizontal; Pitch: 1mm; LCSC Part #: N/A; Supplier 1: Mouser; Supplier 1 Part Number: N/A; Supplier 1 URL: N/A; Supplier 2: Digi-Key; Supplier 2 Part Number: N/A; Supplier 2 URL: N/A; Supplier 3: thegioiic; Supplier 3 Part Number: N/A; Supplier 3 URL: N/A; Value: 686122189122
footprint 686122189122
pins: 1, 2, 3, 4, 5, 6, 7, 8, 9, 10, 11, 12, 13, 14, 15, 16, 17, 18, 19, 20, 21, 22, M1, M2

## 686124148922
designator J?  (value not drawn)
WR-FPC SMT ZIF Horizontal Bottom Contact Hinge Type, pitch 1mm, Horizontal, 24pins; Manufacturer: Wurth Elektronik; Contact Resistance: 50mΩ; Rated Current: 1A; Working Voltage: 100VAC; Withstanding Voltage: 1000VAC; ComponentLink1Description: Datasheet; ComponentLink1URL: https://www.we-online.com/redexpert/spec/686124148922?ad; Manufacturer Part Number: 686124148922; Category: FPC Connectors; Mount: Surface Mount; Operating Temperature Max: 105°C; Operating Temperature Min: -40°C; Packaging: Tape and Reel; Length: 28.6mm; Width: 6.5mm; Height: 2.2mm; Number of Pins: 24; Orientation: Horizontal; Pitch: 1mm; LCSC Part #: N/A; Supplier 1: Mouser; Supplier 1 Part Number: N/A; Supplier 1 URL: N/A; Supplier 2: Digi-Key; Supplier 2 Part Number: N/A; Supplier 2 URL: N/A; Supplier 3: thegioiic; Supplier 3 Part Number: N/A; Supplier 3 URL: N/A; Value: 686124148922
footprint 686124148922
pins: 1, 2, 3, 4, 5, 6, 7, 8, 9, 10, 11, 12, 13, 14, 15, 16, 17, 18, 19, 20, 21, 22, 23, 24, M1, M2

## 686124183822
designator J?  (value not drawn)
WR-FPC SMT ZIF Vertical Type A, pitch 1mm, Vertical, 24pins; Manufacturer: Wurth Elektronik; Contact Resistance: 30mΩ; Rated Current: 1A; Working Voltage: 125VAC; Withstanding Voltage: 1000VAC; ComponentLink1Description: Datasheet; ComponentLink1URL: https://www.we-online.com/redexpert/spec/686124183822?ad; Manufacturer Part Number: 686124183822; Category: FPC Connectors; Mount: Surface Mount; Operating Temperature Max: 85°C; Operating Temperature Min: -25°C; Packaging: Tape and Reel; Length: 30.8mm; Width: 3.3mm; Height: 3.25mm; Number of Pins: 24; Orientation: Vertical; Pitch: 1mm; LCSC Part #: N/A; Supplier 1: Mouser; Supplier 1 Part Number: N/A; Supplier 1 URL: N/A; Supplier 2: Digi-Key; Supplier 2 Part Number: N/A; Supplier 2 URL: N/A; Supplier 3: thegioiic; Supplier 3 Part Number: N/A; Supplier 3 URL: N/A; Value: 686124183822
footprint 686124183822
pins: 1, 2, 3, 4, 5, 6, 7, 8, 9, 10, 11, 12, 13, 14, 15, 16, 17, 18, 19, 20, 21, 22, 23, 24, M1, M2, M3, M4

## 686124188622
designator J?  (value not drawn)
WR-FPC SMT LIF Horizontal Top Contact, pitch 1mm, Horizontal, 24pins; Manufacturer: Wurth Elektronik; Contact Resistance: 30mΩ; Rated Current: 1A; Working Voltage: 125VAC; Withstanding Voltage: 1000VAC; ComponentLink1Description: Datasheet; ComponentLink1URL: https://www.we-online.com/redexpert/spec/686124188622?ad; Manufacturer Part Number: 686124188622; Category: FPC Connectors; Mount: Surface Mount; Operating Temperature Max: 85°C; Operating Temperature Min: -25°C; Packaging: Tape and Reel; Length: 27.8mm; Width: 6.8mm; Height: 3.1mm; Number of Pins: 24; Orientation: Horizontal; Pitch: 1mm; LCSC Part #: N/A; Supplier 1: Mouser; Supplier 1 Part Number: N/A; Supplier 1 URL: N/A; Supplier 2: Digi-Key; Supplier 2 Part Number: N/A; Supplier 2 URL: N/A; Supplier 3: thegioiic; Supplier 3 Part Number: N/A; Supplier 3 URL: N/A; Value: 686124188622
footprint 686124188622
pins: 1, 2, 3, 4, 5, 6, 7, 8, 9, 10, 11, 12, 13, 14, 15, 16, 17, 18, 19, 20, 21, 22, 23, 24, M1, M2

## 686124188822
designator J?  (value not drawn)
WR-FPC SMT LIF Vertical Type A, pitch 1mm, Vertical, 24pins; Manufacturer: Wurth Elektronik; Contact Resistance: 30mΩ; Rated Current: 1A; Working Voltage: 125VAC; Withstanding Voltage: 1000VAC; ComponentLink1Description: Datasheet; ComponentLink1URL: https://www.we-online.com/redexpert/spec/686124188822?ad; Manufacturer Part Number: 686124188822; Category: FPC Connectors; Mount: Surface Mount; Operating Temperature Max: 85°C; Operating Temperature Min: -25°C; Packaging: Tape and Reel; Length: 27mm; Width: 4.4mm; Height: 5.1mm; Number of Pins: 24; Orientation: Vertical; Pitch: 1mm; LCSC Part #: N/A; Supplier 1: Mouser; Supplier 1 Part Number: N/A; Supplier 1 URL: N/A; Supplier 2: Digi-Key; Supplier 2 Part Number: N/A; Supplier 2 URL: N/A; Supplier 3: thegioiic; Supplier 3 Part Number: N/A; Supplier 3 URL: N/A; Value: 686124188822
footprint 686124188822
pins: 1, 2, 3, 4, 5, 6, 7, 8, 9, 10, 11, 12, 13, 14, 15, 16, 17, 18, 19, 20, 21, 22, 23, 24

## 686126148922
designator J?  (value not drawn)
WR-FPC SMT ZIF Horizontal Bottom Contact Hinge Type, pitch 1mm, Horizontal, 26pins; Manufacturer: Wurth Elektronik; Contact Resistance: 50mΩ; Rated Current: 1A; Working Voltage: 100VAC; Withstanding Voltage: 1000VAC; ComponentLink1Description: Datasheet; ComponentLink1URL: https://www.we-online.com/redexpert/spec/686126148922?ad; Manufacturer Part Number: 686126148922; Category: FPC Connectors; Mount: Surface Mount; Operating Temperature Max: 105°C; Operating Temperature Min: -40°C; Packaging: Tape and Reel; Length: 30.6mm; Width: 6.5mm; Height: 2.2mm; Number of Pins: 26; Orientation: Horizontal; Pitch: 1mm; LCSC Part #: N/A; Supplier 1: Mouser; Supplier 1 Part Number: N/A; Supplier 1 URL: N/A; Supplier 2: Digi-Key; Supplier 2 Part Number: N/A; Supplier 2 URL: N/A; Supplier 3: thegioiic; Supplier 3 Part Number: N/A; Supplier 3 URL: N/A; Value: 686126148922
footprint 686126148922
pins: 1, 2, 3, 4, 5, 6, 7, 8, 9, 10, 11, 12, 13, 14, 15, 16, 17, 18, 19, 20, 21, 22, 23, 24, 25, 26, M1, M2

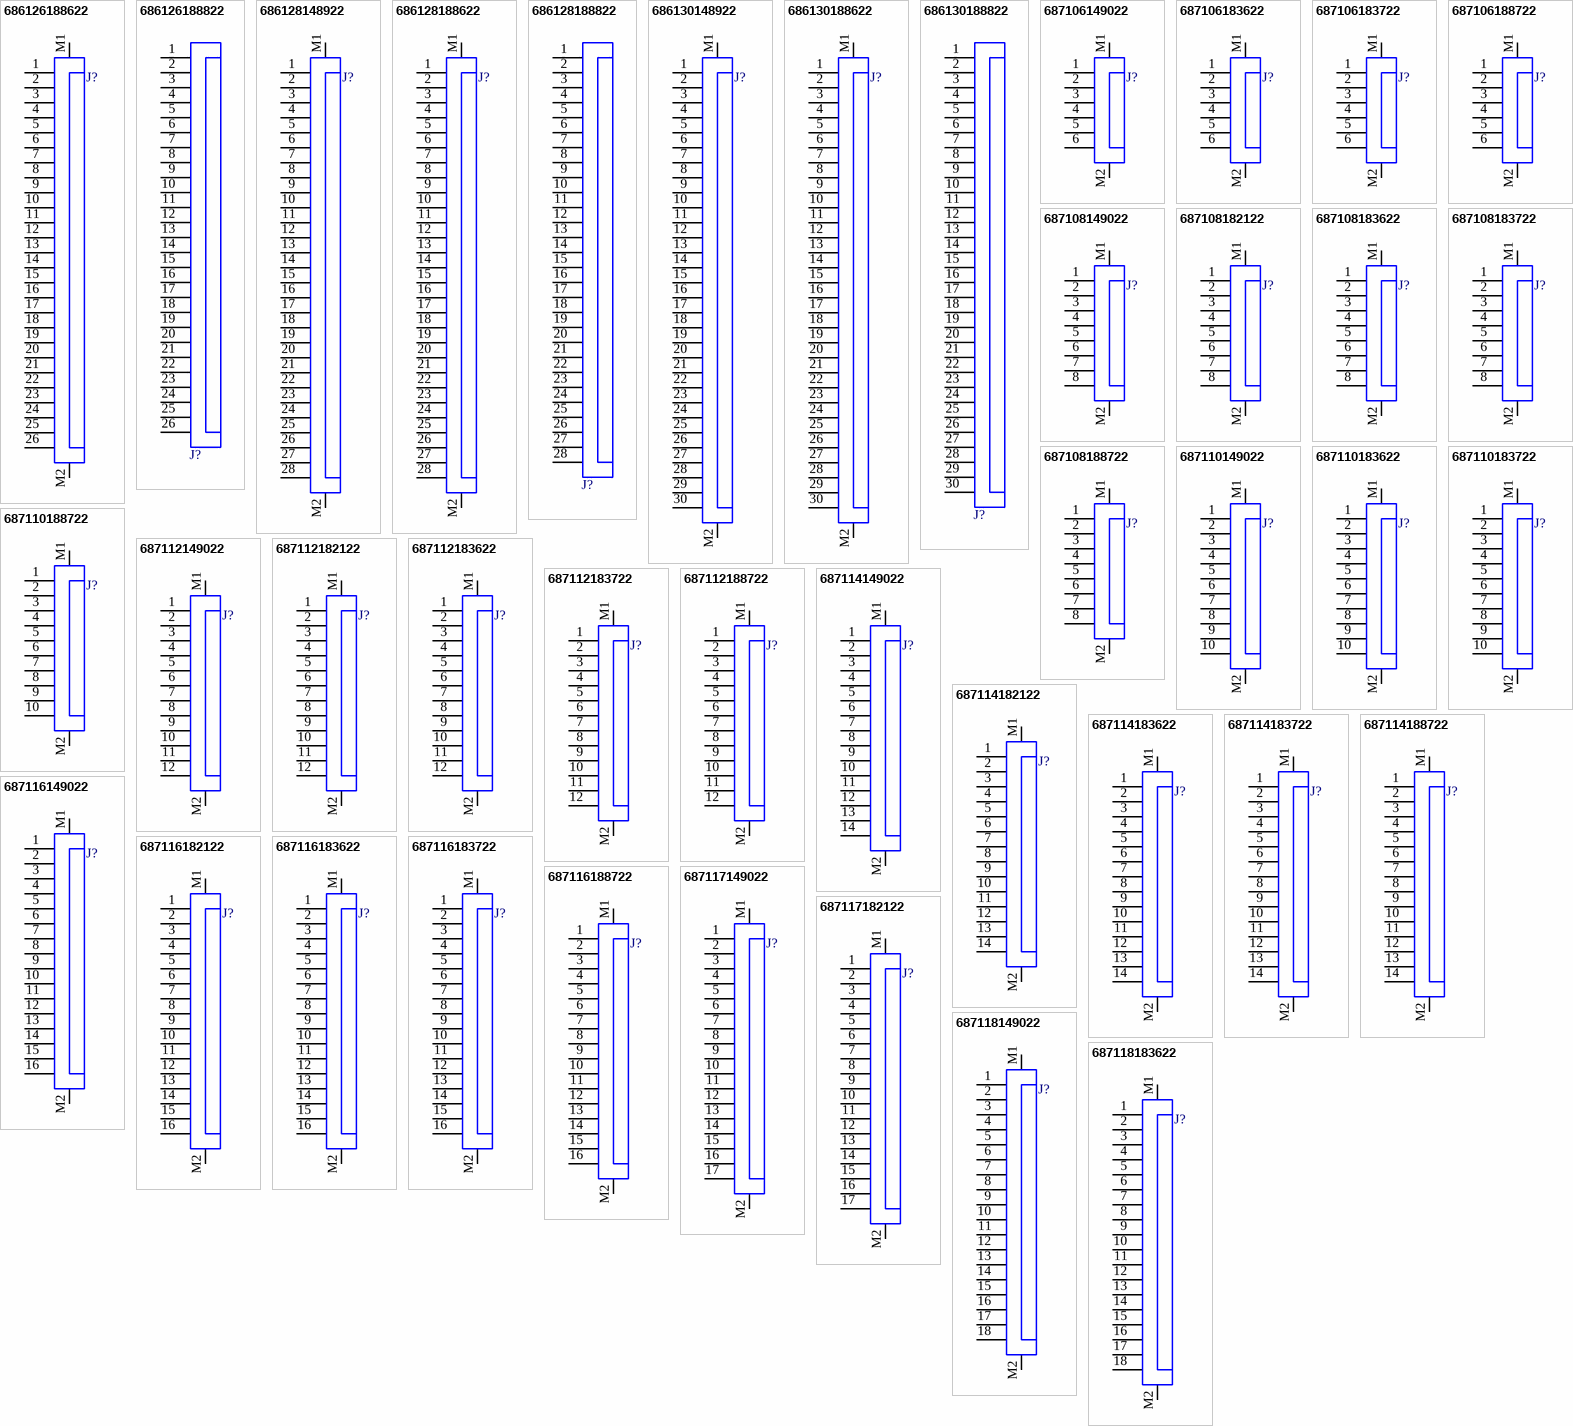
[diagram p4: symbols 686126188622 to 687118183622]

## 686126188622
designator J?  (value not drawn)
WR-FPC SMT LIF Horizontal Top Contact, pitch 1mm, Horizontal, 26pins; Manufacturer: Wurth Elektronik; Contact Resistance: 30mΩ; Rated Current: 1A; Working Voltage: 125VAC; Withstanding Voltage: 1000VAC; ComponentLink1Description: Datasheet; ComponentLink1URL: https://www.we-online.com/redexpert/spec/686126188622?ad; Manufacturer Part Number: 686126188622; Category: FPC Connectors; Mount: Surface Mount; Operating Temperature Max: 85°C; Operating Temperature Min: -25°C; Packaging: Tape and Reel; Length: 29.8mm; Width: 6.8mm; Height: 3.1mm; Number of Pins: 26; Orientation: Horizontal; Pitch: 1mm; LCSC Part #: N/A; Supplier 1: Mouser; Supplier 1 Part Number: N/A; Supplier 1 URL: N/A; Supplier 2: Digi-Key; Supplier 2 Part Number: N/A; Supplier 2 URL: N/A; Supplier 3: thegioiic; Supplier 3 Part Number: N/A; Supplier 3 URL: N/A; Value: 686126188622
footprint 686126188622
pins: 1, 2, 3, 4, 5, 6, 7, 8, 9, 10, 11, 12, 13, 14, 15, 16, 17, 18, 19, 20, 21, 22, 23, 24, 25, 26, M1, M2

## 686126188822
designator J?  (value not drawn)
WR-FPC SMT LIF Vertical Type A, pitch 1mm, Vertical, 26pins; Manufacturer: Wurth Elektronik; Contact Resistance: 30mΩ; Rated Current: 1A; Working Voltage: 125VAC; Withstanding Voltage: 1000VAC; ComponentLink1Description: Datasheet; ComponentLink1URL: https://www.we-online.com/redexpert/spec/686126188822?ad; Manufacturer Part Number: 686126188822; Category: FPC Connectors; Mount: Surface Mount; Operating Temperature Max: 85°C; Operating Temperature Min: -25°C; Packaging: Tape and Reel; Length: 29mm; Width: 4.4mm; Height: 5.1mm; Number of Pins: 26; Orientation: Vertical; Pitch: 1mm; LCSC Part #: N/A; Supplier 1: Mouser; Supplier 1 Part Number: N/A; Supplier 1 URL: N/A; Supplier 2: Digi-Key; Supplier 2 Part Number: N/A; Supplier 2 URL: N/A; Supplier 3: thegioiic; Supplier 3 Part Number: N/A; Supplier 3 URL: N/A; Value: 686126188822
footprint 686126188822
pins: 1, 2, 3, 4, 5, 6, 7, 8, 9, 10, 11, 12, 13, 14, 15, 16, 17, 18, 19, 20, 21, 22, 23, 24, 25, 26

## 686128148922
designator J?  (value not drawn)
WR-FPC SMT ZIF Horizontal Bottom Contact Hinge Type, pitch 1mm, Horizontal, 28pins; Manufacturer: Wurth Elektronik; Contact Resistance: 50mΩ; Rated Current: 1A; Working Voltage: 100VAC; Withstanding Voltage: 1000VAC; ComponentLink1Description: Datasheet; ComponentLink1URL: https://www.we-online.com/redexpert/spec/686128148922?ad; Manufacturer Part Number: 686128148922; Category: FPC Connectors; Mount: Surface Mount; Operating Temperature Max: 105°C; Operating Temperature Min: -40°C; Packaging: Tape and Reel; Length: 32.6mm; Width: 6.5mm; Height: 2.2mm; Number of Pins: 28; Orientation: Horizontal; Pitch: 1mm; LCSC Part #: N/A; Supplier 1: Mouser; Supplier 1 Part Number: N/A; Supplier 1 URL: N/A; Supplier 2: Digi-Key; Supplier 2 Part Number: N/A; Supplier 2 URL: N/A; Supplier 3: thegioiic; Supplier 3 Part Number: N/A; Supplier 3 URL: N/A; Value: 686128148922
footprint 686128148922
pins: 1, 2, 3, 4, 5, 6, 7, 8, 9, 10, 11, 12, 13, 14, 15, 16, 17, 18, 19, 20, 21, 22, 23, 24, 25, 26, 27, 28, M1, M2

## 686128188622
designator J?  (value not drawn)
WR-FPC SMT LIF Horizontal Top Contact, pitch 1mm, Horizontal, 28pins; Manufacturer: Wurth Elektronik; Contact Resistance: 30mΩ; Rated Current: 1A; Working Voltage: 125VAC; Withstanding Voltage: 1000VAC; ComponentLink1Description: Datasheet; ComponentLink1URL: https://www.we-online.com/redexpert/spec/686128188622?ad; Manufacturer Part Number: 686128188622; Category: FPC Connectors; Mount: Surface Mount; Operating Temperature Max: 85°C; Operating Temperature Min: -25°C; Packaging: Tape and Reel; Length: 31.8mm; Width: 6.8mm; Height: 3.1mm; Number of Pins: 28; Orientation: Horizontal; Pitch: 1mm; LCSC Part #: N/A; Supplier 1: Mouser; Supplier 1 Part Number: N/A; Supplier 1 URL: N/A; Supplier 2: Digi-Key; Supplier 2 Part Number: N/A; Supplier 2 URL: N/A; Supplier 3: thegioiic; Supplier 3 Part Number: N/A; Supplier 3 URL: N/A; Value: 686128188622
footprint 686128188622
pins: 1, 2, 3, 4, 5, 6, 7, 8, 9, 10, 11, 12, 13, 14, 15, 16, 17, 18, 19, 20, 21, 22, 23, 24, 25, 26, 27, 28, M1, M2

## 686128188822
designator J?  (value not drawn)
WR-FPC SMT LIF Vertical Type A, pitch 1mm, Vertical, 28pins; Manufacturer: Wurth Elektronik; Contact Resistance: 30mΩ; Rated Current: 1A; Working Voltage: 125VAC; Withstanding Voltage: 1000VAC; ComponentLink1Description: Datasheet; ComponentLink1URL: https://www.we-online.com/redexpert/spec/686128188822?ad; Manufacturer Part Number: 686128188822; Category: FPC Connectors; Mount: Surface Mount; Operating Temperature Max: 85°C; Operating Temperature Min: -25°C; Packaging: Tape and Reel; Length: 31mm; Width: 4.4mm; Height: 5.1mm; Number of Pins: 28; Orientation: Vertical; Pitch: 1mm; LCSC Part #: N/A; Supplier 1: Mouser; Supplier 1 Part Number: N/A; Supplier 1 URL: N/A; Supplier 2: Digi-Key; Supplier 2 Part Number: N/A; Supplier 2 URL: N/A; Supplier 3: thegioiic; Supplier 3 Part Number: N/A; Supplier 3 URL: N/A; Value: 686128188822
footprint 686128188822
pins: 1, 2, 3, 4, 5, 6, 7, 8, 9, 10, 11, 12, 13, 14, 15, 16, 17, 18, 19, 20, 21, 22, 23, 24, 25, 26, 27, 28

## 686130148922
designator J?  (value not drawn)
WR-FPC SMT ZIF Horizontal Bottom Contact Hinge Type, pitch 1mm, Horizontal, 30pins; Manufacturer: Wurth Elektronik; Contact Resistance: 50mΩ; Rated Current: 1A; Working Voltage: 100VAC; Withstanding Voltage: 1000VAC; ComponentLink1Description: Datasheet; ComponentLink1URL: https://www.we-online.com/redexpert/spec/686130148922?ad; Manufacturer Part Number: 686130148922; Category: FPC Connectors; Mount: Surface Mount; Operating Temperature Max: 105°C; Operating Temperature Min: -40°C; Packaging: Tape and Reel; Length: 34.6mm; Width: 6.5mm; Height: 2.2mm; Number of Pins: 30; Orientation: Horizontal; Pitch: 1mm; LCSC Part #: N/A; Supplier 1: Mouser; Supplier 1 Part Number: N/A; Supplier 1 URL: N/A; Supplier 2: Digi-Key; Supplier 2 Part Number: N/A; Supplier 2 URL: N/A; Supplier 3: thegioiic; Supplier 3 Part Number: N/A; Supplier 3 URL: N/A; Value: 686130148922
footprint 686130148922
pins: 1, 2, 3, 4, 5, 6, 7, 8, 9, 10, 11, 12, 13, 14, 15, 16, 17, 18, 19, 20, 21, 22, 23, 24, 25, 26, 27, 28, 29, 30, M1, M2

## 686130188622
designator J?  (value not drawn)
WR-FPC SMT LIF Horizontal Top Contact, pitch 1mm, Horizontal, 30pins; Manufacturer: Wurth Elektronik; Contact Resistance: 30mΩ; Rated Current: 1A; Working Voltage: 125VAC; Withstanding Voltage: 1000VAC; ComponentLink1Description: Datasheet; ComponentLink1URL: https://www.we-online.com/redexpert/spec/686130188622?ad; Manufacturer Part Number: 686130188622; Category: FPC Connectors; Mount: Surface Mount; Operating Temperature Max: 85°C; Operating Temperature Min: -25°C; Packaging: Tape and Reel; Length: 33.8mm; Width: 6.8mm; Height: 3.1mm; Number of Pins: 30; Orientation: Horizontal; Pitch: 1mm; LCSC Part #: N/A; Supplier 1: Mouser; Supplier 1 Part Number: N/A; Supplier 1 URL: N/A; Supplier 2: Digi-Key; Supplier 2 Part Number: N/A; Supplier 2 URL: N/A; Supplier 3: thegioiic; Supplier 3 Part Number: N/A; Supplier 3 URL: N/A; Value: 686130188622
footprint 686130188622
pins: 1, 2, 3, 4, 5, 6, 7, 8, 9, 10, 11, 12, 13, 14, 15, 16, 17, 18, 19, 20, 21, 22, 23, 24, 25, 26, 27, 28, 29, 30, M1, M2

## 686130188822
designator J?  (value not drawn)
WR-FPC SMT LIF Vertical Type A, pitch 1mm, Vertical, 30pins; Manufacturer: Wurth Elektronik; Contact Resistance: 30mΩ; Rated Current: 1A; Working Voltage: 125VAC; Withstanding Voltage: 1000VAC; ComponentLink1Description: Datasheet; ComponentLink1URL: https://www.we-online.com/redexpert/spec/686130188822?ad; Manufacturer Part Number: 686130188822; Category: FPC Connectors; Mount: Surface Mount; Operating Temperature Max: 85°C; Operating Temperature Min: -25°C; Packaging: Tape and Reel; Length: 33mm; Width: 4.4mm; Height: 5.1mm; Number of Pins: 30; Orientation: Vertical; Pitch: 1mm; LCSC Part #: N/A; Supplier 1: Mouser; Supplier 1 Part Number: N/A; Supplier 1 URL: N/A; Supplier 2: Digi-Key; Supplier 2 Part Number: N/A; Supplier 2 URL: N/A; Supplier 3: thegioiic; Supplier 3 Part Number: N/A; Supplier 3 URL: N/A; Value: 686130188822
footprint 686130188822
pins: 1, 2, 3, 4, 5, 6, 7, 8, 9, 10, 11, 12, 13, 14, 15, 16, 17, 18, 19, 20, 21, 22, 23, 24, 25, 26, 27, 28, 29, 30

## 687106149022
designator J?, comment AFC01-S06FCA-00  (value not drawn)
Flip type 6P Bottom Contact Horizontal attachment 0.5mm SMD,P=0.5mm,Surface Mount，Right Angle FFC, FPC (Flat Flexible) Connector Assemblies ROHS; Manufacturer: JUSHUO; Contact Resistance: 50mΩ; Rated Current: 0.5A; Working Voltage: 50VAC; Withstanding Voltage: 1000VAC; ComponentLink1Description: Datasheet; ComponentLink1URL: https://www.lcsc.com/datasheet/lcsc_datasheet_2304140030_JUSHUO-AFC01-S06FCA-00_C262655.pdf; Manufacturer Part Number: AFC01-S06FCA-00; Category: FPC Connectors; Mount: Surface Mount; Operating Temperature Max: 105°C; Operating Temperature Min: -40°C; Packaging: Tape and Reel; Length: 7.1mm; Width: 6.5mm; Height: 2.2mm; Number of Pins: 6; Orientation: Horizontal; Pitch: 0.5mm; LCSC Part #: C262655; Supplier 1: Mouser; Supplier 1 Part Number: N/A; Supplier 1 URL: N/A; Supplier 2: Digi-Key; Supplier 2 Part Number: N/A; Supplier 2 URL: N/A; Supplier 3: thegioiic; Supplier 3 Part Number: N/A; Supplier 3 URL: N/A; Value: AFC01-S06FCA-00
footprint 687106149022
pins: 1, 2, 3, 4, 5, 6, M1, M2